# Altium footprint library board.PcbLib: 2 footprints
Each footprint in its own frame and in the unit in brackets; x right, y up, seen from the top. Pads: shape width x height; smd on the part's side, far side on the other; paste and mask are expansions set on the pad; w line width, h text height; cw(c..) or ccw(c..) is an arc to the next point about the centre after c.
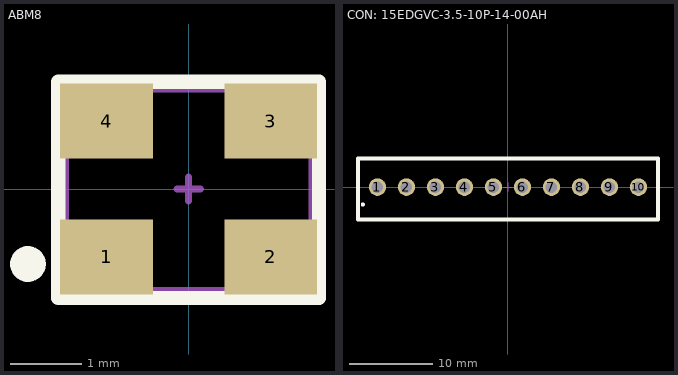
[diagram p0: the footprints below, top view; thin cyan lines are the x and y axes]

## ABM8 [mm] "Quartz Crystal, SM; Body 3.2 x 2.5 mm"
height 1
pads (4):
  rect 1.3x1.05 smd: 1(-1.15,-0.95) 2(1.15,-0.95) 3(1.15,0.95) 4(-1.15,0.95)
Top Overlay:
  circle w0.25: c-2.25,-1.05 r0.125
  lines w0.2: -1.825,-1.525 1.825,-1.525 1.825,1.5 -1.825,1.5 -1.825,-1.525
Mechanical 15:
  lines w0.1: -0.165,0 0.165,0 ; 0,-0.165 0,0.165 ; -1.725,-1.425 1.725,-1.425 1.725,1.4 -1.725,1.4 -1.725,-1.425
3D body "ABM8.step": height 0.75, standoff -0.01, extent -1.6,-1.25 1.6,1.25

## CON: 15EDGVC-3.5-10P-14-00AH [mm] "Vertical PCB Header, pitch 3.5mm, 08p"
height 9.2
pads (11):
  round 2.1 hole 1.4: 1(-15.757,0.002) 2(-12.257,0.002) 3(-8.757,0.002) 4(-5.257,0.002) 5(-1.757,0.002) 6(1.743,0.002) 7(5.243,0.002) 8(8.743,0.002) 9(12.243,0.002) 10(15.743,0.002)
  round 0.5 on Top Overlay: ""(-17.507,-2.098)
Top Overlay:
  lines w0.5: -18.097,-3.917 -18.097,3.468 18.106,3.468 18.106,-3.917 -18.097,-3.917
Mechanical 15:
  lines w0.1: -0.492,0.004 0.508,0.004 ; 0.008,-0.496 0.008,0.504
3D body "User Library-15EDGVC-3_5-10P.STEP": height 9.2, standoff -3.4, extent -17.837,-3.637 17.963,3.363